# Altium schematic symbol library TestPad.SchLib: 1 symbol
Pins are listed as number, name and electrical type; pins without a type are passive.

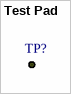
[diagram p0: symbol Test Pad]

## Test Pad
designator TP?, comment SMT Test Point 0.6mm  (value not drawn)  (no BOM)
footprint TestPoint_0.6mm
pins: 1 "Reserved. Connect to VDDIO."